# Altium integrated library Altium Database Library V2.IntLib: 722 symbols (part 12 of 35)

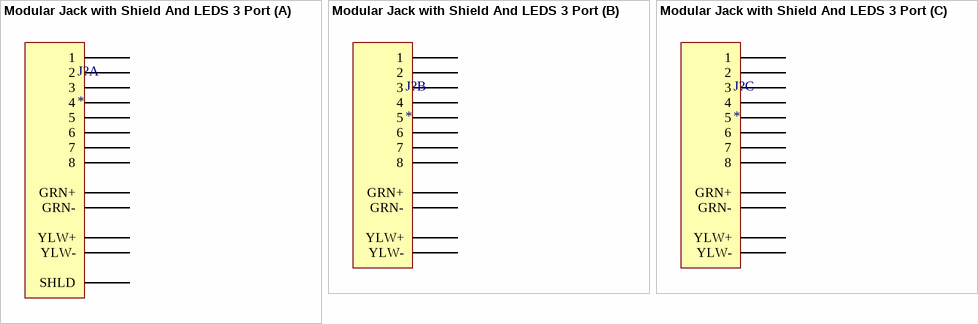
[diagram p253: symbol Modular Jack with Shield And LEDS 3 Port]

## Modular Jack with Shield And LEDS 3 Port
designator J?
part A pins: A1 1, A2 2, A3 3, A4 4, A5 5, A6 6, A7 7, A8 8, A9 GRN-, A10 GRN+, A11 YLW-, A12 YLW+, S SHLD
part B pins: B1 1, B2 2, B3 3, B4 4, B5 5, B6 6, B7 7, B8 8, B9 GRN-, B10 GRN+, B11 YLW-, B12 YLW+
part C pins: C1 1, C2 2, C3 3, C4 4, C5 5, C6 6, C7 7, C8 8, C9 GRN-, C10 GRN+, C11 YLW-, C12 YLW+


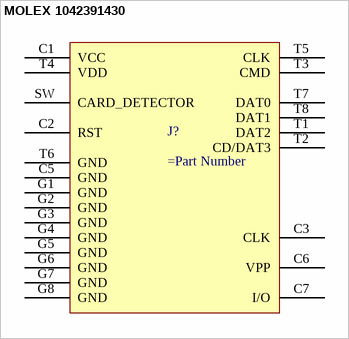
[diagram p254: symbol MOLEX 1042391430]

## MOLEX 1042391430
designator J?
pins: C1 VCC, C2 RST, C3 CLK, C5 GND, C6 VPP, C7 I/O, G1 GND, G2 GND, G3 GND, G4 GND, G5 GND, G6 GND, G7 GND, G8 GND, SW CARD_DETECTOR, T1 DAT2, T2 CD/DAT3, T3 CMD, T4 VDD, T5 CLK, T6 GND, T7 DAT0, T8 DAT1


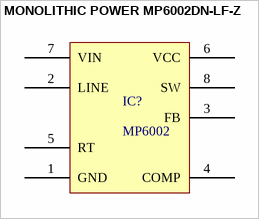
[diagram p255: symbol MONOLITHIC POWER MP6002DN-LF-Z]

## MONOLITHIC POWER MP6002DN-LF-Z
designator IC?, comment MP6002
pins: 1 GND, 2 LINE, 3 FB, 4 COMP, 5 RT, 6 VCC, 7 VIN, 8 SW


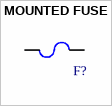
[diagram p256: symbol MOUNTED FUSE]

## MOUNTED FUSE
designator F?  (value not drawn)
GENERIC_fuse
pins: 1, 2


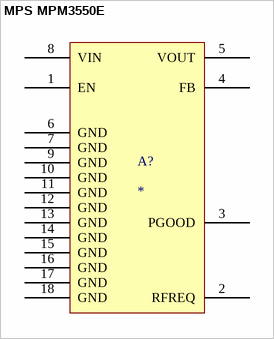
[diagram p257: symbol MPS MPM3550E]

## MPS MPM3550E
designator A?
pins: 1 EN, 2 RFREQ, 3 PGOOD, 4 FB, 5 VOUT, 6 GND, 7 GND, 8 VIN, 9 GND, 10 GND, 11 GND, 12 GND, 13 GND, 14 GND, 15 GND, 16 GND, 17 GND, 18 GND


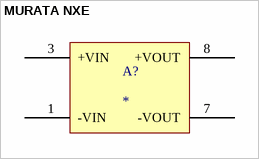
[diagram p258: symbol MURATA NXE]

## MURATA NXE
designator A?
pins: 1 -VIN, 3 +VIN, 7 -VOUT, 8 +VOUT


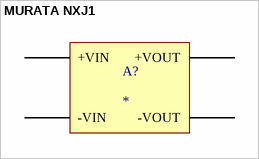
[diagram p259: symbol MURATA NXJ1]

## MURATA NXJ1
designator A?
pins: 1 -VIN, 3 +VIN, 7 -VOUT, 8 +VOUT


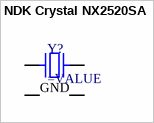
[diagram p260: symbol NDK Crystal NX2520SA]

## NDK Crystal NX2520SA
designator Y?
SMT Crystal
pins: 1, 2 GND, 3, 4 GND


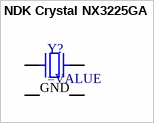
[diagram p261: symbol NDK Crystal NX3225GA]

## NDK Crystal NX3225GA
designator Y?
SMT Crystal
pins: 1, 2 GND, 3, 4 GND


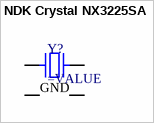
[diagram p262: symbol NDK Crystal NX3225SA]

## NDK Crystal NX3225SA
designator Y?
SMT Crystal
pins: 1, 2 GND, 3, 4 GND


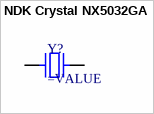
[diagram p263: symbol NDK Crystal NX5032GA]

## NDK Crystal NX5032GA
designator Y?
SMT Crystal
pins: 1, 2


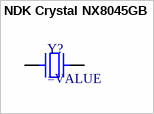
[diagram p264: symbol NDK Crystal NX8045GB]

## NDK Crystal NX8045GB
designator Y?
SMT Crystal
pins: 1, 2


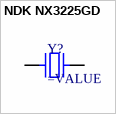
[diagram p265: symbol NDK NX3225GD]

## NDK NX3225GD
designator Y?
SMT Crystal
pins: 1, 2


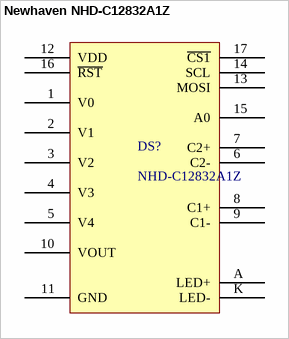
[diagram p266: symbol Newhaven NHD-C12832A1Z]

## Newhaven NHD-C12832A1Z
designator DS?, comment NHD-C12832A1Z
COG (Chip-On-Glass) Liquid Crystal Display Module
pins: 1 V0, 2 V1, 3 V2, 4 V3, 5 V4, 6 C2-, 7 C2+, 8 C1+, 9 C1-, 10 VOUT, 11 GND, 12 VDD, 13 MOSI, 14 SCL, 15 A0, 16 ~{RST}, 17 ~{CS1}, A LED+, K LED-


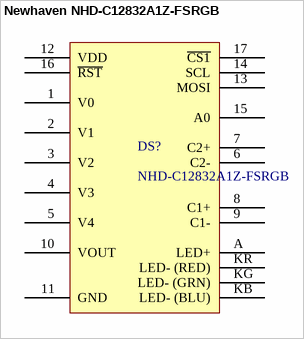
[diagram p267: symbol Newhaven NHD-C12832A1Z-FSRGB]

## Newhaven NHD-C12832A1Z-FSRGB
designator DS?, comment NHD-C12832A1Z-FSRGB
COG (Chip-On-Glass) Liquid Crystal Display Module
pins: 1 V0, 2 V1, 3 V2, 4 V3, 5 V4, 6 C2-, 7 C2+, 8 C1+, 9 C1-, 10 VOUT, 11 GND, 12 VDD, 13 MOSI, 14 SCL, 15 A0, 16 ~{RST}, 17 ~{CS1}, A LED+, KB LED- (BLU), KG LED- (GRN), KR LED- (RED)


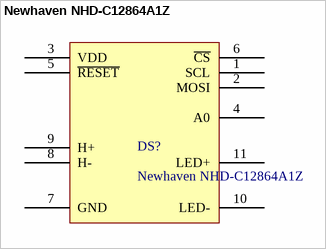
[diagram p268: symbol Newhaven NHD-C12864A1Z]

## Newhaven NHD-C12864A1Z
designator DS?
COG (Chip-On-Glass) Liquid Crystal Display Module
pins: 1 SCL, 2 MOSI, 3 VDD, 4 A0, 5 ~{RESET}, 6 ~{CS}, 7 GND, 8 H-, 9 H+, 10 LED-, 11 LED+


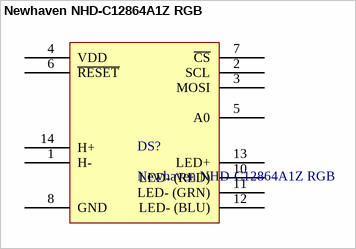
[diagram p269: symbol Newhaven NHD-C12864A1Z RGB]

## Newhaven NHD-C12864A1Z RGB
designator DS?
COG (Chip-On-Glass) Liquid Crystal Display Module
pins: 1 H-, 2 SCL, 3 MOSI, 4 VDD, 5 A0, 6 ~{RESET}, 7 ~{CS}, 8 GND, 10 LED- (RED), 11 LED- (GRN), 12 LED- (BLU), 13 LED+, 14 H+


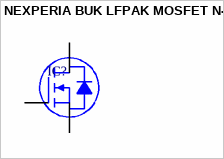
[diagram p270: symbol NEXPERIA BUK LFPAK MOSFET N-CH]

## NEXPERIA BUK LFPAK MOSFET N-CH
designator IC?
pins: 1 S, 2 S, 3 S, 4 G, 5 D


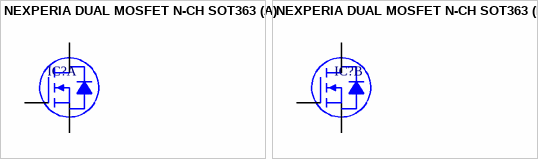
[diagram p271: symbol NEXPERIA DUAL MOSFET N-CH SOT363]

## NEXPERIA DUAL MOSFET N-CH SOT363
designator IC?
part A pins: 1 S1, 2 G1, 6 D1
part B pins: 3 D2, 4 S2, 5 G2


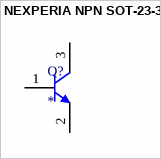
[diagram p272: symbol NEXPERIA NPN SOT-23-3]

## NEXPERIA NPN SOT-23-3
designator Q?
pins: 1 B, 2 E, 3 C


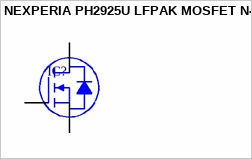
[diagram p273: symbol NEXPERIA PH2925U LFPAK MOSFET N-CH]

## NEXPERIA PH2925U LFPAK MOSFET N-CH
designator IC?
pins: 1 S, 2 S, 3 S, 4 G, 5 D


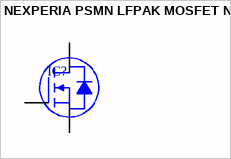
[diagram p274: symbol NEXPERIA PSMN LFPAK MOSFET N-CH]

## NEXPERIA PSMN LFPAK MOSFET N-CH
designator IC?
pins: 1 S, 2 S, 3 S, 4 G, 5 D


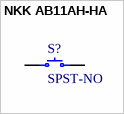
[diagram p275: symbol NKK AB11AH-HA]

## NKK AB11AH-HA
designator S?, comment SPST-NO
pins: 1, 3
